# Altium schematic symbol library 87831-0441.SchLib: 1 symbol
Pins are listed as number, name and electrical type; pins without a type are passive.

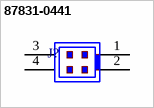
[diagram p0: symbol 87831-0441]

## 87831-0441
designator J?
=Description
pins: 1, 2, 3, 4